# Altium schematic symbol library RC0603FR-0722RL.SchLib: 1 symbol
Pins are listed as number, name and electrical type; pins without a type are passive.

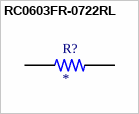
[diagram p0: symbol RC0603FR-0722RL]

## RC0603FR-0722RL
designator R?
22 Ohms Â±1% 0.1W, 1/10W Chip Resistor 0603 (1608 Metric) Moisture Resistant Thick Film; MF: Yageo; MP: RC0603FR-0722RL; SnapEDA_Link: https://www.snapeda.com/parts/RC0603FR-0722RL/Yageo/view-part/?ref=snap; Package: 0603 Yageo; Value: *; Check_prices: https://www.snapeda.com/parts/RC0603FR-0722RL/Yageo/view-part/?ref=eda
footprint RESC1607X60N
pins: 1, 2